# Altium footprint library Capacitor Polar Axial.PcbLib: 56 footprints (part 1 of 4)
Each footprint in its own frame and in the unit in brackets; x right, y up, seen from the top. Pads: shape width x height; smd on the part's side, far side on the other; paste and mask are expansions set on the pad; w line width, h text height; cw(c..) or ccw(c..) is an arc to the next point about the centre after c.
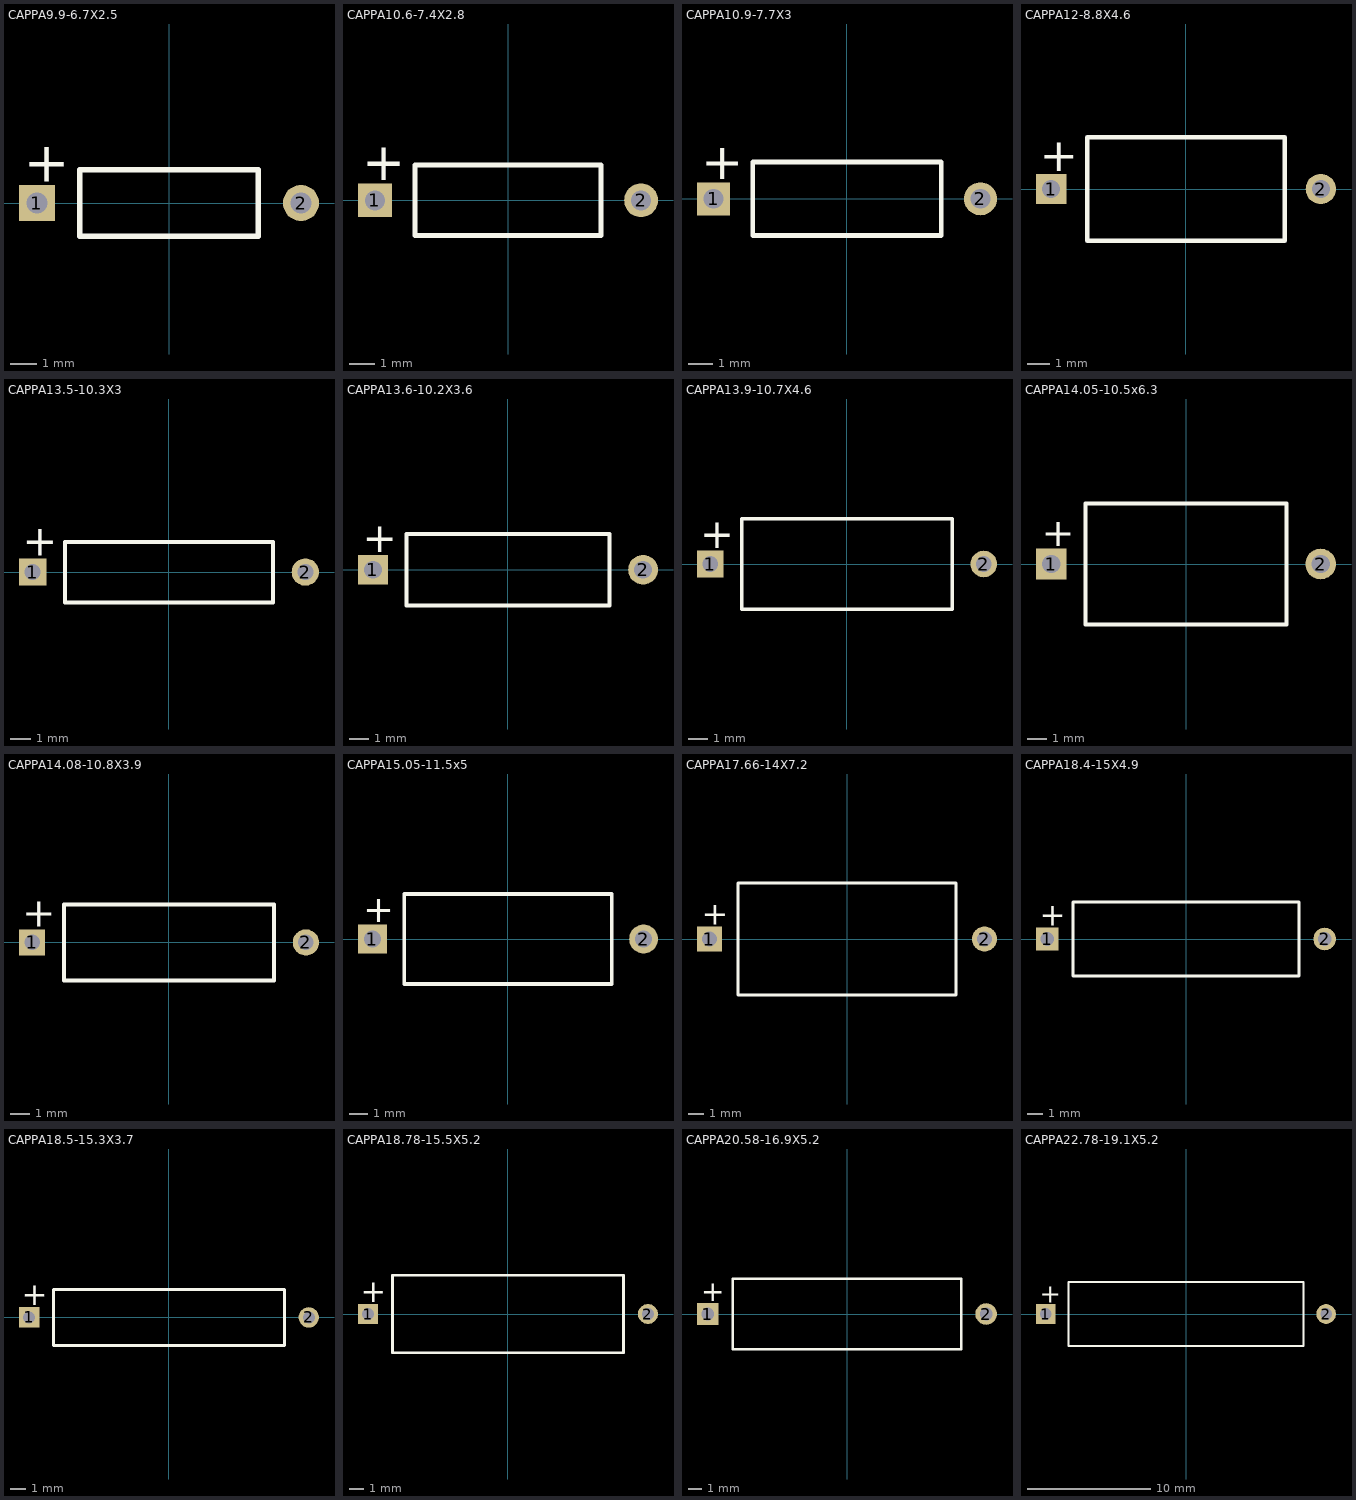
[diagram p0: the footprints below, top view; thin cyan lines are the x and y axes]

## CAPPA9.9-6.7X2.5 [mm] "Capacitor, Axial, Polarised; Body 6.6 x 2.4 mm (LxDia. max), Lead Dia. 0.51 mm (typ)"
height 2.5
pads (2):
  rect 1.35x1.35 hole 0.8: 1(-4.95,0)
  round 1.35 hole 0.8: 2(4.95,0)
Top Overlay:
  lines w0.2: -3.35,-1.25 3.35,-1.25 3.35,1.25 -3.35,1.25 -3.35,-1.25
  text "+" at -5.45,0.8 h1.5

## CAPPA10.6-7.4X2.8 [mm] "Capacitor, Axial, Polarised; Body 7.4 x 2.8 mm (LxDia. max), Lead Dia. 0.51 mm (typ)"
height 2.8
pads (2):
  rect 1.35x1.35 hole 0.8: 1(-5.3,0)
  round 1.35 hole 0.8: 2(5.3,0)
Top Overlay:
  lines w0.2: -3.7,-1.4 -3.7,1.4 3.7,1.4 3.7,-1.4 -3.7,-1.4
  text "+" at -5.8,0.8 h1.5

## CAPPA10.9-7.7X3 [mm] "Capacitor, Axial, Polarised; Body 7.6 x 2.9 mm (LxDia. max), Lead Dia. 0.51 mm (typ)"
height 3
pads (2):
  rect 1.35x1.35 hole 0.8: 1(-5.45,0)
  round 1.35 hole 0.8: 2(5.45,0)
Top Overlay:
  lines w0.2: -3.85,-1.5 3.85,-1.5 3.85,1.5 -3.85,1.5 -3.85,-1.5
  text "+" at -5.95,0.8 h1.5

## CAPPA12-8.8X4.6 [mm] "Capacitor, Axial, Polarised; Body 8.8 x 4.6 mm (LxDia. max), Lead Dia. 0.51 mm (typ)"
height 4.6
pads (2):
  rect 1.35x1.35 hole 0.8: 1(-6,0)
  round 1.35 hole 0.8: 2(6,0)
Top Overlay:
  lines w0.2: -4.4,-2.3 -4.4,2.3 4.4,2.3 4.4,-2.3 -4.4,-2.3
  text "+" at -6.5,0.8 h1.5

## CAPPA13.5-10.3X3 [mm] "Capacitor, Axial, Polarised; Body 10.2 x 2.9 mm (LxDia. max), Lead Dia. 0.51 mm (typ)"
height 3
pads (2):
  rect 1.35x1.35 hole 0.8: 1(-6.75,0)
  round 1.35 hole 0.8: 2(6.75,0)
Top Overlay:
  lines w0.2: -5.15,-1.5 5.15,-1.5 5.15,1.5 -5.15,1.5 -5.15,-1.5
  text "+" at -7.25,0.8 h1.5

## CAPPA13.6-10.2X3.6 [mm] "Capacitor, Axial, Polarised; Body 8.1 x 3.6 mm (LxDia. max), Lead Dia. 0.53 mm (typ)"
height 3.6
pads (2):
  rect 1.5x1.5 hole 0.9: 1(-6.8,0)
  round 1.5 hole 0.9: 2(6.8,0)
Top Overlay:
  lines w0.2: -5.1,-1.8 5.1,-1.8 5.1,1.8 -5.1,1.8 -5.1,-1.8
  text "+" at -7.3,0.875 h1.5

## CAPPA13.9-10.7X4.6 [mm] "Capacitor, Axial, Polarised; Body 10.7 x 4.6 mm (LxDia. max), Lead Dia. 0.51 mm (typ)"
height 4.6
pads (2):
  rect 1.35x1.35 hole 0.8: 1(-6.95,0)
  round 1.35 hole 0.8: 2(6.95,0)
Top Overlay:
  lines w0.2: -5.35,-2.3 -5.35,2.3 5.35,2.3 5.35,-2.3 -5.35,-2.3
  text "+" at -7.45,0.8 h1.5

## CAPPA14.05-10.5x6.3 [mm] "Capacitor, Axial, Polarised; Body 10.5 x 6.3 mm (LxDia. max), Lead Dia. 0.6 mm (typ)"
height 6.3
pads (2):
  rect 1.6x1.6 hole 0.95: 1(-7.025,0)
  round 1.6 hole 0.95: 2(7.025,0)
Top Overlay:
  lines w0.2: -5.25,-3.15 -5.25,3.15 5.25,3.15 5.25,-3.15 -5.25,-3.15
  text "+" at -7.525,0.925 h1.5

## CAPPA14.08-10.8X3.9 [mm] "Capacitor, Axial, Polarised; Body 8.1 x 3.8 mm (LxDia. max), Lead Dia. 0.51 mm (typ)"
height 3.9
pads (2):
  rect 1.35x1.35 hole 0.8: 1(-7.04,0)
  round 1.35 hole 0.8: 2(7.04,0)
Top Overlay:
  lines w0.2: -5.4,-1.95 -5.4,1.95 5.4,1.95 5.4,-1.95 -5.4,-1.95
  text "+" at -7.54,0.8 h1.5

## CAPPA15.05-11.5x5 [mm] "Capacitor, Axial, Polarised; Body 11.5 x 5 mm (LxDia. max), Lead Dia. 0.6 mm (typ)"
height 5
pads (2):
  rect 1.6x1.6 hole 0.95: 1(-7.525,0)
  round 1.6 hole 0.95: 2(7.525,0)
Top Overlay:
  lines w0.2: -5.75,-2.5 -5.75,2.5 5.75,2.5 5.75,-2.5 -5.75,-2.5
  text "+" at -8.025,0.925 h1.5

## CAPPA17.66-14X7.2 [mm] "Capacitor, Axial, Polarised; Body 14 x 7.1 mm (LxDia. max), Lead Dia. 0.64 mm (typ)"
height 7.2
pads (2):
  rect 1.6x1.6 hole 0.95: 1(-8.83,0)
  round 1.6 hole 0.95: 2(8.83,0)
Top Overlay:
  lines w0.2: -7,-3.6 7,-3.6 7,3.6 -7,3.6 -7,-3.6
  text "+" at -9.33,0.925 h1.5

## CAPPA18.4-15X4.9 [mm] "Capacitor, Axial, Polarised; Body 12.8 x 4.9 mm (LxDia. max), Lead Dia. 0.53 mm (typ)"
height 4.9
pads (2):
  rect 1.5x1.5 hole 0.9: 1(-9.2,0)
  round 1.5 hole 0.9: 2(9.2,0)
Top Overlay:
  lines w0.2: -7.5,-2.45 -7.5,2.45 7.5,2.45 7.5,-2.45 -7.5,-2.45
  text "+" at -9.7,0.875 h1.5

## CAPPA18.5-15.3X3.7 [mm] "Capacitor, Axial, Polarised; Body 15.2 x 3.7 mm (LxDia. max), Lead Dia. 0.51 mm (typ)"
height 3.7
pads (2):
  rect 1.35x1.35 hole 0.8: 1(-9.25,0)
  round 1.35 hole 0.8: 2(9.25,0)
Top Overlay:
  lines w0.2: -7.65,-1.85 -7.65,1.85 7.65,1.85 7.65,-1.85 -7.65,-1.85
  text "+" at -9.75,0.8 h1.5

## CAPPA18.78-15.5X5.2 [mm] "Capacitor, Axial, Polarised; Body 12.8 x 5.1 mm (LxDia. max), Lead Dia. 0.51 mm (typ)"
height 5.2
pads (2):
  rect 1.35x1.35 hole 0.8: 1(-9.39,0)
  round 1.35 hole 0.8: 2(9.39,0)
Top Overlay:
  lines w0.2: -7.75,-2.6 -7.75,2.6 7.75,2.6 7.75,-2.6 -7.75,-2.6
  text "+" at -9.89,0.8 h1.5

## CAPPA20.58-16.9X5.2 [mm] "Capacitor, Axial, Polarised; Body 12.3 x 5.1 mm (LxDia. max), Lead Dia. 0.64 mm (typ)"
height 5.2
pads (2):
  rect 1.6x1.6 hole 0.95: 1(-10.29,0)
  round 1.6 hole 0.95: 2(10.29,0)
Top Overlay:
  lines w0.2: -8.45,-2.6 -8.45,2.6 8.45,2.6 8.45,-2.6 -8.45,-2.6
  text "+" at -10.79,0.925 h1.5

## CAPPA22.78-19.1X5.2 [mm] "Capacitor, Axial, Polarised; Body 12.3 x 5.2 mm (LxDia. max), Lead Dia. 0.64 mm (typ)"
height 5.2
pads (2):
  rect 1.6x1.6 hole 0.95: 1(-11.39,0)
  round 1.6 hole 0.95: 2(11.39,0)
Top Overlay:
  lines w0.2: -9.55,-2.6 -9.55,2.6 9.55,2.6 9.55,-2.6 -9.55,-2.6
  text "+" at -11.89,0.925 h1.5